# Altium schematic symbol library Battery circuit sch.SchLib: 26 symbols
Pins are listed as number, name and electrical type; pins without a type are passive.

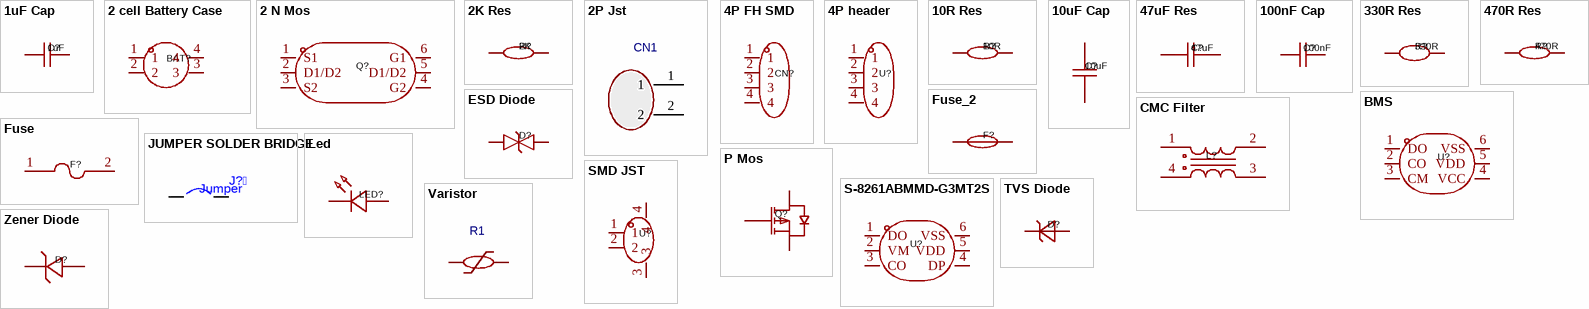
[diagram p0: symbols 1uF Cap to Zener Diode]

## 1uF Cap
designator C?, comment 1uF
Manufacturer: SAMSUNG(三星); Symbol: CL05A105KO5NNNC; Add into BOM: yes; Tolerance: ±10%; Device: CL05A105KO5NNNC; LCSC Part Name: 1uF ±10% 16V; Supplier Part: C29266; Manufacturer Part: CL05A105KO5NNNC; Supplier Footprint: 0402; JLCPCB Part Class: Extended Part; Datasheet: https://atta.szlcsc.com/upload/public/pdf/source/20160218/1457707763339.pdf; Supplier: LCSC; Convert to PCB: yes; Value: 1uF
pins: 1, 2

## 2 cell Battery Case
designator BAT?, comment BH-18650-A1BJ021  (value not drawn)
Manufacturer: MYOUNG(美阳); Add into BOM: yes; Connector Type: Battery box; Battery Type: CR18650; Symbol: BH-18650-A1BJ021; Device: BH-18650-A1BJ021; LCSC Part Name: 电池盒 适用电池:CR18650; Supplier Part: C20606804; Manufacturer Part: BH-18650-A1BJ021; Supplier Footprint: 插件; JLCPCB Part Class: Extended Part; Datasheet: https://atta.szlcsc.com/upload/public/pdf/source/20240112/147D77B47FAFC966051AFF7CD950677D.pdf; Supplier: LCSC; Convert to PCB: yes; Contact Plating: Nickel; Operating Temperature Range: -25℃~+85℃
pins: 1, 2, 3, 4

## 2 N Mos
designator Q?, comment FS8205A  (value not drawn)
Manufacturer: TECH PUBLIC(台舟); Symbol: FS8205A_C2830320; Add into BOM: yes; Type: 2 N-Channel; Drain Source On Resistance (RDS(on)@Vgs,Id): 19.5mΩ@4.5V,3A; Gate Threshold Voltage (Vgs(th)@Id): 700mV@250uA; Total Gate Charge (Qg@Vgs): 5.7nC@10V; Input Capacitance (Ciss@Vds): 466pF@10V; Reverse Transfer Capacitance (Crss@Vds): 58pF@10V; Device: FS8205A_C2830320; LCSC Part Name: 2个N沟道 耐压:20V 电流:6A; Supplier Part: C2830320; Manufacturer Part: FS8205A; Supplier Footprint: SOT-23-6; JLCPCB Part Class: Extended Part; Datasheet: https://atta.szlcsc.com/upload/public/pdf/source/20210810/F53B6D4E8755A1F8E11BAF814CE98E6A.pdf; Supplier: LCSC; Convert to PCB: yes; Operating Temperature: -55℃~+150℃@(Tj)
pins: 1 S1, 2 D1/D2, 3 S2, 4 G2, 5 D1/D2, 6 G1

## 2K Res
designator R?, comment 2K
Manufacturer: FH(风华); Symbol: RC-02W2001FT; Add into BOM: yes; Value: 2kΩ; Tolerance: ±1%; Temperature Coefficient: ±200ppm/℃; Device: RC-02W2001FT; LCSC Part Name: 厚膜电阻 2kΩ ±1% 62.5mW; Supplier Part: C304583; Manufacturer Part: RC-02W2001FT; Supplier Footprint: 0402; JLCPCB Part Class: Extended Part; Datasheet: https://atta.szlcsc.com/upload/public/pdf/source/20190505/C118335_36085569433BA7FFC796E569DBFE3139.pdf; Supplier: LCSC; Convert to PCB: yes; Type: Thick Film Resistors; Operating Temperature Range: -55℃~+155℃
footprint R0402
pins: 1, 2

## 2P Jst
designator CN1, comment B2B-PH-K-S(LF)(SN)  (value not drawn)
Manufacturer: JST; Contributor: LCSC; Supplier: LCSC; Manufacturer Part: B2B-PH-K-S(LF)(SN); Supplier Part: C131337; JLCPCB Part Class: Extended Part; spicePre: C; spiceSymbolName: B2B-PH-K-S(LF)(SN)
pins: 1, 2

## 4P FH SMD
designator CN?, comment F136-1104S3CMUB2  (value not drawn)
Manufacturer: Yxcon(宇熙精密); Add into BOM: yes; Holes Structure: 1x4P; Pitch: 2.54mm; Number of Holes: 4P; Symbol: F136-1104S3CMUB2; Device: F136-1104S3CMUB2; LCSC Part Name: 1x4P 间距:2.54mm; Supplier Part: C20071191; Manufacturer Part: F136-1104S3CMUB2; Supplier Footprint: SMD,P=2.54mm(交错脚); JLCPCB Part Class: Extended Part; Datasheet: https://atta.szlcsc.com/upload/public/pdf/source/20231229/6268F0CB0A5C868446EF560AB6378120.pdf; Supplier: LCSC; Convert to PCB: yes; Number of Rows: Plugin; Insulation Height: 3.5mm; Contact Material: bronze; Contact Plating: Tin; Operating Temperature Range: -40℃~+105℃
pins: 1, 2, 3, 4

## 4P header
designator U?, comment HB-PH3-25414PB2GOP  (value not drawn)
Manufacturer: HANBO(汉博); Add into BOM: yes; Pin Structure: 1x4P; Pitch: 2.54mm; Circluar Pins/Square Pins: Square Pins; Current Rating (Max): 3A; Voltage Rating (Max): 250V; Soldering Temperature(Max): 260℃; Symbol: HB-PH3-25414PB2GOP; Device: HB-PH3-25414PB2GOP; LCSC Part Name: 间距:2.54mm 1x4P 直插 方针; Supplier Part: C6332197; Manufacturer Part: HB-PH3-25414PB2GOP; Supplier Footprint: 插件,P=2.54mm; JLCPCB Part Class: Extended Part; Datasheet: https://atta.szlcsc.com/upload/public/pdf/source/20230803/F72D259687963761DF1B552F3BB84A31.pdf; Supplier: LCSC; Convert to PCB: yes; Row Spacing: 2.54mm; Mounting Type: Straight; Number of Rows: Plugin; Number of Pins: 4P; Length of Mating Pin: 6mm; Insulation Height: 2.54mm; Length of End Connection Pin: 3mm; Contact Plating: Gold; Operating Temperature Range: -40℃~+105℃; Color: Black
pins: 1, 2, 3, 4

## 10R Res
designator R?, comment 10R
Manufacturer: FH(风华); Symbol: RS-03K100JT; Add into BOM: yes; Value: 10Ω; Tolerance: ±5%; Temperature Coefficient: ±100ppm/℃; Device: RS-03K100JT; LCSC Part Name: 厚膜电阻 10Ω ±5% 100mW; Supplier Part: C304686; Manufacturer Part: RS-03K100JT; Supplier Footprint: 0603; JLCPCB Part Class: Extended Part; Datasheet: https://atta.szlcsc.com/upload/public/pdf/source/20190505/C118335_36085569433BA7FFC796E569DBFE3139.pdf; Supplier: LCSC; Convert to PCB: yes; Type: Thick Film Resistors; Operating Temperature Range: -55℃~+155℃
pins: 1, 2

## 10uF Cap
designator C?, comment 10uF
Manufacturer: muRata(村田); Symbol: GRM32ER61C106KA12L; Add into BOM: yes; Tolerance: ±10%; Device: GRM32ER61C106KA12L; LCSC Part Name: 10uF ±10% 16V; Supplier Part: C184907; Manufacturer Part: GRM32ER61C106KA12L; Supplier Footprint: 1210; JLCPCB Part Class: Extended Part; Datasheet: https://atta.szlcsc.com/upload/public/pdf/source/20200305/C490387_23319AE8C154DEB24C505E6C82A8106A.pdf; Supplier: LCSC; Convert to PCB: yes; Value: 10uF
pins: 1, 2

## 47uF Res
designator C?, comment 47uF
Manufacturer: IHHEC(禾伸堂); Symbol: C1206B476M016T; Add into BOM: yes; Tolerance: ±20%; Device: C1206B476M016T; LCSC Part Name: 47uF ±20% 16V; Supplier Part: C607993; Manufacturer Part: C1206B476M016T; Supplier Footprint: 1206; JLCPCB Part Class: Extended Part; Datasheet: https://atta.szlcsc.com/upload/public/pdf/source/20190313/C374174_331C86E4A68CC9C732DA87186AAF7F8A.pdf; Supplier: LCSC; Convert to PCB: yes; Value: 47uF
pins: 1, 2

## 100nF Cap
designator C?, comment 100nF
Manufacturer: muRata(村田); Symbol: GRM188R71C104KA01D; Add into BOM: yes; Tolerance: ±10%; Device: GRM188R71C104KA01D; LCSC Part Name: 100nF ±10% 16V; Supplier Part: C45000; Manufacturer Part: GRM188R71C104KA01D; Supplier Footprint: 0603; JLCPCB Part Class: Extended Part; Datasheet: https://atta.szlcsc.com/upload/public/pdf/source/20161108/1478586365848.pdf; Supplier: LCSC; Convert to PCB: yes; Value: 100nF
pins: 1, 2

## 330R Res
designator R?, comment 330R
Manufacturer: PANASONIC(松下); Symbol: ERJPA2F3300X; Add into BOM: yes; Value: 330Ω; Tolerance: ±1%; Temperature Coefficient: ±100ppm/℃; Device: ERJPA2F3300X; LCSC Part Name: 330Ω ±1% 200mW 厚膜电阻; Supplier Part: C427237; Manufacturer Part: ERJPA2F3300X; Supplier Footprint: 0402; JLCPCB Part Class: Extended Part; Supplier: LCSC; Convert to PCB: yes; Type: Thick Film Resistors; Overload Voltage (Max): -; Operating Temperature Range: -55℃~+155℃
pins: 1, 2

## 470R Res
designator R?, comment 470R
Manufacturer: LIZ(丽智电子); Symbol: CR0402FF4700G; Add into BOM: yes; Value: 470Ω; Tolerance: ±1%; Temperature Coefficient: ±200ppm/℃; Device: CR0402FF4700G; LCSC Part Name: 厚膜电阻 470Ω ±1% 62.5mW; Supplier Part: C100443; Manufacturer Part: CR0402FF4700G; Supplier Footprint: 0402; JLCPCB Part Class: Extended Part; Datasheet: https://atta.szlcsc.com/upload/public/pdf/source/20180403/C189438_6D658388CC7843F35BBC9018D03F0B8E.pdf; Supplier: LCSC; Convert to PCB: yes; Type: Thick Film Resistors; Operating Temperature Range: -55℃~+125℃
pins: 1, 2

## BMS
designator U?, comment S-8252AAG-M6T1U  (value not drawn)
Manufacturer: ABLIC(艾普凌科); Add into BOM: yes; The Chip Type: 电池保护芯片; Type of Battery: 锂离子/Polymer; Number of Cells: 2; Symbol: S-8252AAG-M6T1U; Device: S-8252AAG-M6T1U; LCSC Part Name: S-8252AAG-M6T1U; Supplier Part: C468221; Manufacturer Part: S-8252AAG-M6T1U; Supplier Footprint: SOT-23-6; JLCPCB Part Class: Extended Part; Datasheet: https://atta.szlcsc.com/upload/public/pdf/source/20191209/C468225_F5C4BE1FF1893F617C569592E38D23FF.pdf; Supplier: LCSC; Convert to PCB: yes; Operating Temperature: -40℃~+85℃
pins: 1 DO, 2 CO, 3 CM, 4 VCC, 5 VDD, 6 VSS

## CMC Filter
designator L?, comment CMF4532F-900-2P-Tms  (value not drawn)
Manufacturer: EMTEK(兆欣); Add into BOM: yes; Number of Lines: 2; Withstanding Voltage: 12.5V; Current Rating: 2A; Voltage Rating - DC: 50V; Impedance @ Frequency: 90Ω@100MHz; DC Resistance (DCR): 50mΩ; Symbol: CMF4532F-900-2P-TMS; Device: CMF4532F-900-2P-Tms; LCSC Part Name: 两路 贴片共模滤波器 阻抗90Ω@100MHz; Supplier Part: C252150; Manufacturer Part: CMF4532F-900-2P-Tms; Supplier Footprint: SMD,4.5x3.2x2.8mm; JLCPCB Part Class: Extended Part; Datasheet: https://atta.szlcsc.com/upload/public/pdf/source/20190322/C252150_370767FB0BF4DE5D3F867A1ABBD704E0.pdf; Supplier: LCSC; Convert to PCB: yes; Operating Temperature: -40℃~+125℃
pins: 1, 2, 3, 4

## ESD Diode
designator D?, comment SDD32C24L01  (value not drawn)
Manufacturer: Brightking(君耀电子); Add into BOM: yes; polarity: Bi-Directional; Reverse Stand-Off Voltage (Vrwm): 24V; Maximum Clamping Voltage: 43V; Peak Pulse Current (Ipp)@10/1000us: 1A; Breakdown Voltage: 26.7V; Number of Lines: 单路; Type: ESD; Symbol: SDD32C24L01; Device: SDD32C24L01; LCSC Part Name: 双向ESD; Supplier Part: C313315; Manufacturer Part: SDD32C24L01; Supplier Footprint: SOD-323; JLCPCB Part Class: Extended Part; Datasheet: https://atta.szlcsc.com/upload/public/pdf/source/20181015/C313315_2E77C22BCD6B5C9557E0D87DB90BD0FE.pdf; Supplier: LCSC; Convert to PCB: yes
pins: 1, 2

## Fuse
designator F?, comment ASMD0603-005  (value not drawn)
Manufacturer: JDTfuse(集电通); Add into BOM: yes; Operating Voltage (Max): 15V; Current Rating (Max): 20A; Hold Current: 50mA; Trip Current: 150mA; Power Dissipation: 500mW; Resistance - Initial (Ri) (Min): 3.8Ω; Resistance - Post Trip (R1) (Max): 30Ω; Maximum Time to Trip: 1s; Symbol: ASMD0603-005; Device: ASMD0603-005; LCSC Part Name: 0.05A 自恢复; Supplier Part: C135319; Manufacturer Part: ASMD0603-005; Supplier Footprint: 0603; JLCPCB Part Class: Extended Part; Datasheet: https://atta.szlcsc.com/upload/public/pdf/source/20230515/E3BD72A3B3566E5D91D9E10B82E096BB.pdf; Supplier: LCSC; Convert to PCB: yes; Operating Temperature: -40℃~+85℃
pins: 1, 2

## Fuse_2
designator F?, comment C05228-000  (value not drawn)
Manufacturer: Littelfuse(美国力特); Add into BOM: yes; Type: SMD Fuse; Current Rating: 5A; Voltage Rating (DC): 32V; Breaking Capacity: 45A; Symbol: C05228-000; Device: C05228-000; LCSC Part Name: 贴片式保险丝; Supplier Part: C207129; Manufacturer Part: C05228-000; Supplier Footprint: 1206; JLCPCB Part Class: Extended Part; Datasheet: https://atta.szlcsc.com/upload/public/pdf/source/20191009/C434710_3F89FEC5E8B25E469DD927D36E88D4C3.pdf; Supplier: LCSC; Convert to PCB: yes; Operating Temperature: -55℃~+125℃
pins: 1, 2

## JUMPER SOLDER BRIDGE
designator J?, comment Jumper
SMD JUMPER
pins: 1, 2

## Led
designator LED?, comment XL-1608SURC-06  (value not drawn)
Manufacturer: XINGLIGHT(成兴光); Add into BOM: yes; Emitted Color: Red; Power Dissipation: 55mW; Forward Current: 25mA; Dominant Wavelength: 617nm~621nm; Peak Wavelength: 623nm; Lens Color: 无色透明透镜; Viewing Angle: 120°; Mounting Sytle: Positive post; Symbol: XL-1608SURC-06; Device: XL-1608SURC-06; LCSC Part Name: XL-1608SURC-06; Supplier Part: C965799; Manufacturer Part: XL-1608SURC-06; Supplier Footprint: 0603; JLCPCB Part Class: Extended Part; Datasheet: https://atta.szlcsc.com/upload/public/pdf/source/20221102/D860AFDD1CDB02C5A8064103A32707E2.pdf; Supplier: LCSC; Convert to PCB: yes; Color Temperature: -; Operating Temperature: -30℃~+85℃
pins: 1 K, 2 A

## P Mos
designator Q?, comment AO3401A  (value not drawn)
Manufacturer: AOS; Device: AO3401A_C15127; Add into BOM: yes; Type: 1个PChannel; Drain Source On Resistance (RDS(on)@Vgs,Id): 44mΩ@10V,4.3A; Gate Threshold Voltage (Vgs(th)@Id): 1.3V@250uA; Total Gate Charge (Qg@Vgs): 12.2nC@4.5V; Input Capacitance (Ciss@Vds): 1.2nF@15V; Symbol: AO3401A; LCSC Part Name: 1个P沟道 耐压:30V 电流:4A; Supplier Part: C15127; Manufacturer Part: AO3401A; Supplier Footprint: SOT-23; JLCPCB Part Class: Basic Part; Datasheet: https://atta.szlcsc.com/upload/public/pdf/source/20160507/1462613609053.pdf; Supplier: LCSC; Convert to PCB: yes; Operating Temperature: -55℃~+150℃@(Tj)
pins: 1 G, 2 S, 3 D

## S-8261ABMMD-G3MT2S
designator U?  (value not drawn)
Manufacturer: ABLIC(艾普凌科); Add into BOM: yes; Symbol: S-8261ABMMD-G3MT2S; Device: S-8261ABMMD-G3MT2S; LCSC Part Name: S-8261ABMMD-G3MT2S; Supplier Part: C468188; Manufacturer Part: S-8261ABMMD-G3MT2S; Supplier Footprint: SOT-23-6; JLCPCB Part Class: Extended Part; Datasheet: https://atta.szlcsc.com/upload/public/pdf/source/20191209/C468214_5E8957BE7A73C8EB459281D88AD78CD7.pdf; Supplier: LCSC; Convert to PCB: yes
pins: 1 DO, 2 VM, 3 CO, 4 DP, 5 VDD, 6 VSS

## SMD JST
designator U?, comment BX-HA2.54-2PWT  (value not drawn)
Manufacturer: Bossie(博锡); Add into BOM: yes; Pins Structure: 1x2P; Pitch: 2.54mm; Number of PINs Per Row: 2; Current Rating (Max): 3A; Symbol: BX-HA2.54-2PWT; Device: BX-HA2.54-2PWT; LCSC Part Name: 1x2P 间距:2.54mm 卧贴; Supplier Part: C18077806; Manufacturer Part: BX-HA2.54-2PWT; Supplier Footprint: SMD,P=2.54mm,卧贴; JLCPCB Part Class: Extended Part; Datasheet: https://atta.szlcsc.com/upload/public/pdf/source/20231017/0F5BE3E474C97FE56F69CCCD4551F1BC.pdf; Supplier: LCSC; Convert to PCB: yes; Mounting Style: 卧贴; Reference Series: -; Number of Pins: 2P; Number of Rows: 1; Row Spacing: -; Contact Material: Brass; Contact Plating: Tin; Operating Temperature Range: -25℃~+85℃
pins: 1, 2, 3, 4

## TVS Diode
designator D?, comment SMBJ9.0A  (value not drawn)
Manufacturer: GOODWORK(固得沃克); Symbol: SMBJ9.0A_C908790; Add into BOM: yes; Reverse Stand-Off Voltage (Vrwm): 9V; Maximum Clamping Voltage: 15.4V; Peak Pulse Current (Ipp)@10/1000us: 39A; Peak Pulse Power Dissipation (Ppp)@10/1000us: 600W; Breakdown Voltage: 10V; Reverse Leakage Current (Ir): 5uA; Type: TVS; Device: SMBJ9.0A_C908790; LCSC Part Name: SMBJ9.0A; Supplier Part: C908790; Manufacturer Part: SMBJ9.0A; Supplier Footprint: SMB(DO-214AA); JLCPCB Part Class: Extended Part; Datasheet: https://atta.szlcsc.com/upload/public/pdf/source/20240508/1CA20C3E2CA17788E1A78E427E8A26EF.pdf; Supplier: LCSC; Convert to PCB: yes; Operating Temperature: -55℃~+150℃@(Tj)
pins: 1, 2

## Varistor
designator R1, comment EZJP0V270EA  (value not drawn)
Manufacturer: PANASONIC(松下); Contributor: LCSC; Supplier: LCSC; Supplier Part: C336822; Manufacturer Part: EZJP0V270EA; JLCPCB Part Class: Extended Part; spicePre: R; spiceSymbolName: EZJP0V270EA
pins: 1, 2

## Zener Diode
designator D?, comment BZT52B6V8  (value not drawn)
Manufacturer: FMS(美丽微); Device: BZT52B6V8_C213147; Add into BOM: yes; Diode Configuration: Single; Zener Voltage (Nom): 6.8V; Reverse Leakage Current (Ir): 2uA@4V; Zener Voltage (Range): 6.66V~6.94V; Power Dissipation: 350mW; Zener Impedance (Zzt): 15Ω; Symbol: BZT52B6V8; LCSC Part Name: BZT52B6V8; Supplier Part: C213147; Manufacturer Part: BZT52B6V8; Supplier Footprint: SOD-123; JLCPCB Part Class: Extended Part; Datasheet: https://atta.szlcsc.com/upload/public/pdf/source/20180504/C213215_D8AFED6AF7B069D42DB4E73D6157B86A.pdf; Supplier: LCSC; Convert to PCB: yes
pins: 1 K, 2 A